# EAGLE library part 2520-5002UB (library 3M_By_element14_Batch_1)
WIRE-BOARD CONN, HEADER, 20POS
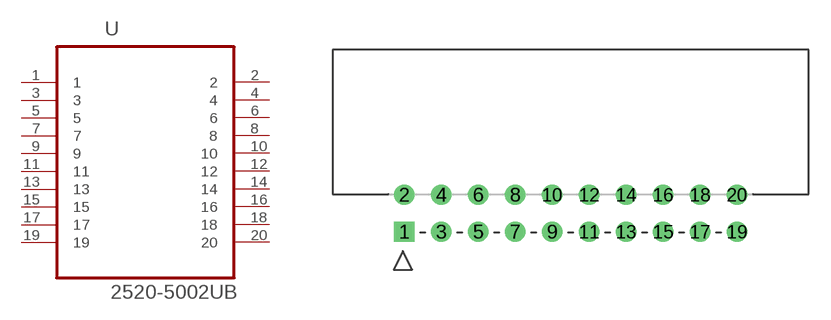
[diagram p21: symbol with the pads of 3M_2520-5002UB; footprint 3M_2520-5002UB]

Designator prefix U

## 2520-5002UB (MPN: 2520-5002UB; OC_FARNELL: -; OC_NEWARK: 93F2784; PACKAGE: WIRE-BOARD CONN, HEADER, 20POS; SUPPLIER: 3M)  [3M_2520-5002UB]
1  1  pas
2  2  pas
3  3  pas
4  4  pas
5  5  pas
6  6  pas
7  7  pas
8  8  pas
9  9  pas
10  10  pas
11  11  pas
12  12  pas
13  13  pas
14  14  pas
15  15  pas
16  16  pas
17  17  pas
18  18  pas
19  19  pas
20  20  pas

## Footprint 3M_2520-5002UB (pad centres in mm)
drill 0.889 square: 1 0,-1.27
drill 0.889: 2 0,1.27; 3 2.54,-1.27; 4 2.54,1.27; 5 5.08,-1.27; 6 5.08,1.27; 7 7.62,-1.27; 8 7.62,1.27; 9 10.16,-1.27; 10 10.16,1.27; 11 12.7,-1.27; 12 12.7,1.27; 13 15.24,-1.27; 14 15.24,1.27; 15 17.78,-1.27; 16 17.78,1.27; 17 20.32,-1.27; 18 20.32,1.27; 19 22.86,-1.27; 20 22.86,1.27